# Altium schematic symbol library SZBZX84C15LT3G.SchLib: 1 symbol
Pins are listed as number, name and electrical type; pins without a type are passive.

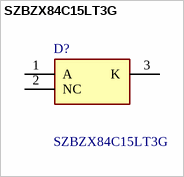
[diagram p0: symbol SZBZX84C15LT3G]

## SZBZX84C15LT3G
designator D?
250 mW Rating on FR-4 or FR-5 Board; Zener Breakdown Voltage Range - 2.4 V to 75 V; Package Designed for Optimal Automated Board Assembly; Small Package Size for High Density Applications; ESD Rating of Class 3 (>16 KV) per Human Body Model; Mechanical Characteristics:; CASE: Void-free, transfer-molded, thermosetting plastic case; FINISH: Corrosion resistant finish, easily solderable; MAXIMUM CASE TEMPERATURE FOR SOLDERING PURPOSES: 260C for 10 Seconds; POLARITY: Cathode indicated by polarity band; FLAMMAB; Manufacturer_Name: onsemi; Geometry.Height: 1.11mm; Mouser Part Number: 863-SZBZX84C15LT3G; Mouser Price/Stock: https://www.mouser.co.uk/ProductDetail/onsemi/SZBZX84C15LT3G?qs=PJJcWtbOkNVWBlfCQ6WTzw%3D%3D; Manufacturer_Part_Number: SZBZX84C15LT3G; Datasheet Link: https://www.onsemi.com/pub/Collateral/BZX84C2V4LT1-D.PDF
footprint SOT96P237X111-3N
pins: 1 A, 2 NC, 3 K